# Altium footprint library Components_Pcb.PcbLib: 7 footprints
Each footprint in its own frame and in the unit in brackets; x right, y up, seen from the top. Pads: shape width x height; smd on the part's side, far side on the other; paste and mask are expansions set on the pad; w line width, h text height; cw(c..) or ccw(c..) is an arc to the next point about the centre after c.
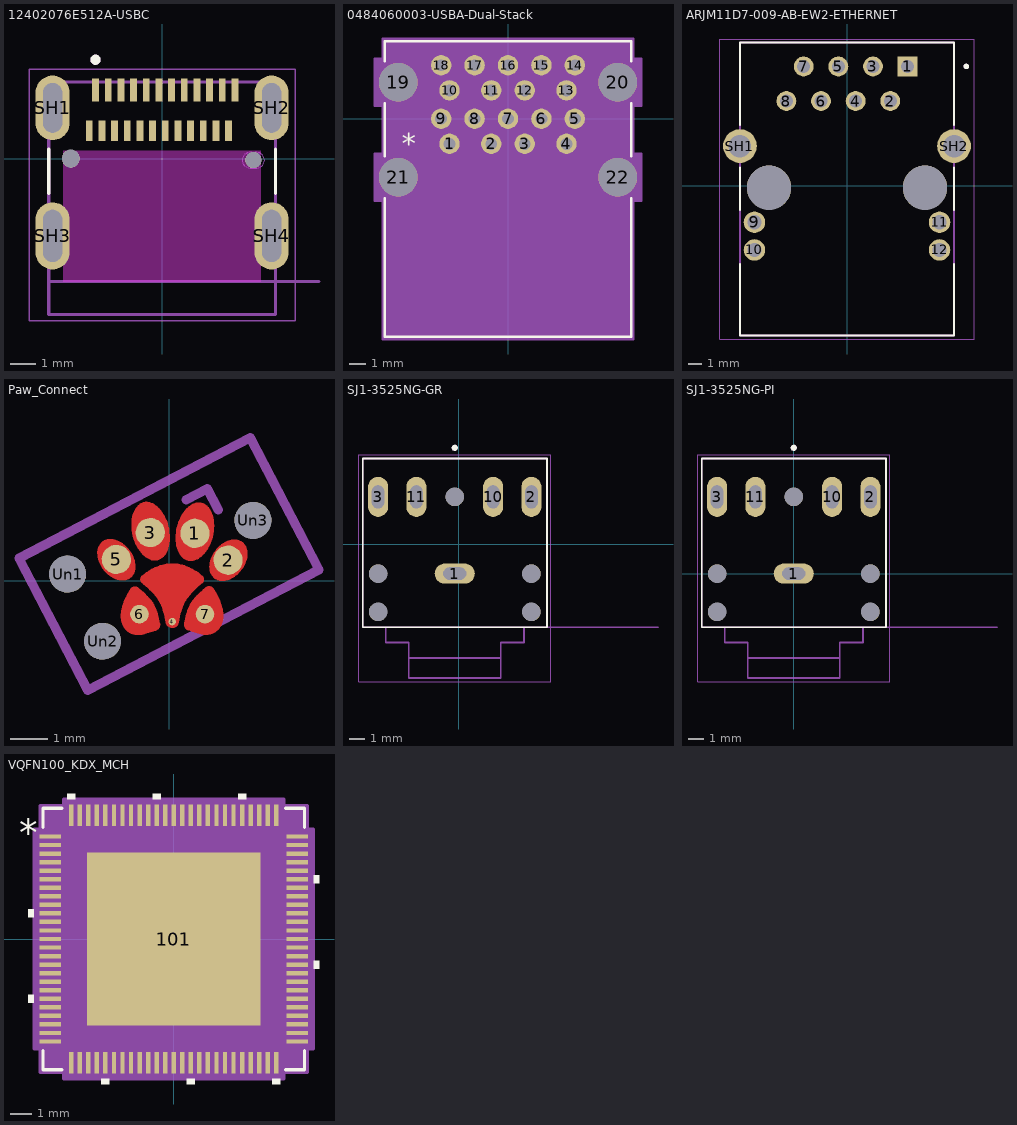
[diagram p0: the footprints below, top view; thin cyan lines are the x and y axes]

## 12402076E512A-USBC [mm] "USB CONN, 4.0 TYPE C, R/A RCPT, 24P, SMT; USB Connector Type: USB Type C; USB Standard: USB 4.0; Gender: Receptacle; No. of Positions: 24Positions; Connector Mounting: Surface Mount, Through Hole Mount; Or 79AJ9108"
pads (30):
  rect 0.27x0.9 smd: A1(-2.625,2.7) A2(-2.125,2.7) A3(-1.625,2.7) A4(-1.125,2.7) A5(-0.625,2.7) A6(-0.125,2.7) A7(0.375,2.7) A8(0.875,2.7) A9(1.375,2.7) A10(1.875,2.7) A11(2.375,2.7) A12(2.875,2.7)
  rect 0.27x0.8 smd: B1(2.625,1.1) B2(2.125,1.1) B3(1.625,1.1) B4(1.125,1.1) B5(0.625,1.1) B6(0.125,1.1) B7(-0.375,1.1) B8(-0.875,1.1) B9(-1.375,1.1) B10(-1.875,1.1) B11(-2.375,1.1) B12(-2.875,1.1)
  oval 1.35x2.55 hole 0.75 slot 1.95 at 90 deg: SH1(-4.32,2) SH2(4.32,2)
  oval 1.35x2.65 hole 0.75 slot 2.05 at 90 deg: SH3(-4.32,-3.05) SH4(4.32,-3.05)
  round 0.7 hole 0.7 unplated: ""(-3.6,0)
  round 0.63 hole 0.63 unplated: ""(3.6,-0.065)
Top Overlay:
  circle w0.2: c-2.625,3.9 r0.1
  lines w0.127: -4.47,-1.38 -4.47,0.38 ; 4.47,-1.38 4.47,0.38
Keep-Out Layer:
  region: 3.9,-4.85 -3.9,-4.85 -3.9,0.3 3.9,0.3
Mechanical 1:
  lines w0: 3.16,-0.065 cw(c3.492,-0.082) 3.51,0.25 3.69,0.25 cw(c3.708,-0.082) 4.04,-0.065 cw(c3.708,-0.048) 3.69,-0.38 3.51,-0.38 cw(c3.492,-0.048) 3.16,-0.065
Mechanical 13:
  circle w0.2: c-2.625,3.9 r0.1
  lines w0.127: 6.19,-4.85 -4.47,-4.85 ; -4.47,-4.85 -4.47,3.02 4.47,3.02 4.47,-6.15 -4.47,-6.15 -4.47,-4.85
  text "PCB Edge" at 5.46,-4.55 h0.81
Mechanical 15:
  lines w0.05: -5.245,-6.4 5.245,-6.4 5.245,3.525 -5.245,3.525 -5.245,-6.4
3D body "step_temp.STEP": height 3.18, standoff -0.88, extent -4.47,-6.249 4.47,2.921

## 0484060003-USBA-Dual-Stack [mil] "Universal Serial Bus (USB 3.0) I/O Receptacle, Dual Port Stacked, Right-Angle, Type A, High-Temperature Blue Nylon, 0.38Âµm Gold (Au) Plating, Contact Height 4.13mm"
pads (22):
  round 48 hole 28 paste-99999 mask+0: 1(-137.8,-59.06) 2(-39.37,-59.06) 3(39.37,-59.06) 4(137.8,-59.06) 5(157.48,0) 6(78.74,0) 7(0,0) 8(-78.74,0) 9(-157.48,0) 10(-137.8,66.93) 11(-39.37,66.93) 12(39.37,66.93) 13(137.8,66.93) 14(157.48,125.98) 15(78.74,125.98) 16(0,125.98) 17(-78.74,125.98) 18(-157.48,125.98)
  round 91 hole 91 unplated paste-99999 mask+0: 19(-258.66,85.83) 20(258.66,85.83) 21(-258.66,-137.8) 22(258.66,-137.8)
Top Overlay:
  lines w6: -290.5,-186.99 -290.5,-514.05 290.5,-514.05 290.5,-186.99 ; -290.5,-88.6 -290.5,36.63 ; -290.5,135.02 -290.5,182.95 290.5,182.95 290.5,135.02 ; 290.5,-88.6 290.5,36.63
  text "*" at -250.3,-84.06 h50
  text ".Designator" at -137.5,-84.06 h50
Mechanical 13:
  lines w1: -285.5,-509.05 285.5,-509.05 285.5,177.95 -285.5,177.95 -285.5,-509.05
  text ".Designator" at -137.5,-84.06 h50
  text "*" at -250.3,-84.06 h50
Mechanical 15:
  region: 295.5,-193.3 314.16,-193.3 314.16,-82.3 295.5,-82.3 295.5,30.33 314.16,30.33 314.16,141.33 295.5,141.33 295.5,187.95 -295.5,187.95 -295.5,141.33 -314.16,141.33 -314.16,30.33 -295.5,30.33 -295.5,-82.3 -314.16,-82.3 -314.16,-193.3 -295.5,-193.3 -295.5,-519.05 295.5,-519.05
  lines w6: -314.16,-193.3 -314.16,-82.3 -295.5,-82.3 -295.5,30.33 -314.16,30.33 -314.16,141.33 -295.5,141.33 -295.5,187.95 295.5,187.95 295.5,141.33 314.16,141.33 314.16,30.33 295.5,30.33 295.5,-82.3 314.16,-82.3 314.16,-193.3 295.5,-193.3 295.5,-519.05 -295.5,-519.05 -295.5,-193.3 -314.16,-193.3
3D body "484060003.stp": height 610.24, standoff -153.45, extent -308.46,-505 308.46,182.4

## ARJM11D7-009-AB-EW2-ETHERNET [mm]
pads (16):
  rect 1.458x1.458 / inner round 1.458 / far side rect 1.458x1.458 hole 0.95: 1(4.445,8.763)
  round 1.458 hole 0.95: 2(3.175,6.223) 3(1.905,8.763) 4(0.635,6.223) 5(-0.635,8.763) 6(-1.905,6.223) 7(-3.175,8.763) 8(-4.445,6.223)
  round 1.575 hole 1.05: 9(-6.785,-2.667) 10(-6.785,-4.697) 11(6.785,-2.667) 12(6.785,-4.697)
  round 2.475 hole 1.65: SH1(-7.85,2.923) SH2(7.85,2.923)
  round 3.25 hole 3.25 unplated: ""(-5.715,-0.127) ""(5.715,-0.127)
Top Overlay:
  circle w0.2: c8.75,8.763 r0.1
  lines w0.127: -7.85,-5.727 -7.85,-10.977 7.85,-10.977 7.85,-5.727 ; -7.85,-1.777 -7.85,1.372 ; -7.85,4.474 -7.85,10.523 7.85,10.523 7.85,4.474 ; 7.85,-1.777 7.85,1.372
Mechanical 13:
  circle w0.2: c8.75,8.763 r0.1
  lines w0.127: -7.85,-10.977 -7.85,10.523 7.85,10.523 7.85,-10.977 -7.85,-10.977
Mechanical 15:
  lines w0.05: -9.337,-11.227 -9.337,10.773 9.337,10.773 9.337,-11.227 -9.337,-11.227
3D body "ARJM11D7-009-AB-EW2--3DModel-STEP-368357.STEP": height 13.8, standoff -3.6, extent -7.99,-11.049 7.99,10.601

## Paw_Connect [mil] "Tag-Connect TC2030-*-NL pogo pin programming cable but as a paw."
pads (10):
  round 31 smd: 1(27.31,50.26) 2(62.35,21.91) 3(-19.94,51.04) 5(-55.76,22.7)
  round 7.87 smd: 4(3.29,-43.05)
  round 19.68 smd: 6(-31.35,-35.18) 7(37.94,-35.18)
  round 39 hole 39: Un1(-107.3,7.15) Un2(-70.36,-63.81) Un3(88.58,64.02)
Top Layer:
  region: 32.1,82.81 33.09,82.72 34.07,82.54 35.04,82.29 35.99,81.95 36.91,81.55 37.8,81.07 38.65,80.52 39.46,79.9 40.24,79.22 40.99,78.48 41.7,77.68 43,75.9 44.15,73.92 45.14,71.73 45.96,69.37 46.61,66.85 47.08,64.19 47.37,61.4 47.47,58.51 47.37,55.53 47.08,52.49 46.59,49.39 45.88,46.27 45.45,44.71 44.98,43.2 44.47,41.72 43.92,40.27 43.33,38.87 42.71,37.51 42.05,36.19 41.36,34.92 40.63,33.69 39.88,32.51 39.1,31.38 38.3,30.3 37.47,29.27 36.62,28.29 35.75,27.37 34.86,26.51 33.95,25.71 33.02,24.96 32.08,24.28 31.13,23.66 30.17,23.1 29.2,22.61 28.22,22.19 27.23,21.83 26.24,21.55 25.25,21.34 24.26,21.2 23.27,21.14 22.28,21.16 21.29,21.25 20.31,21.42 19.34,21.68 18.39,22.01 17.47,22.42 16.58,22.9 15.73,23.45 14.92,24.06 14.13,24.74 13.39,25.48 12.68,26.28 11.38,28.06 10.23,30.05 9.24,32.23 8.42,34.6 7.77,37.12 7.3,39.78 7.01,42.56 6.91,45.45 7,48.43 7.3,51.48 7.79,54.57 8.5,57.7 8.93,59.25 9.4,60.77 9.91,62.25 10.46,63.69 11.05,65.09 11.67,66.45 12.33,67.77 13.02,69.05 13.74,70.27 14.5,71.45 15.27,72.59 16.08,73.67 16.91,74.7 17.76,75.67 18.63,76.59 19.52,77.45 20.43,78.26 21.36,79 22.3,79.69 23.25,80.31 24.21,80.86 25.18,81.35 26.16,81.78 27.15,82.13 28.14,82.41 29.13,82.62 30.12,82.76 31.11,82.82
  region: 69.55,43.58 70.45,43.53 71.34,43.43 72.2,43.27 73.05,43.07 73.87,42.82 74.67,42.51 75.45,42.15 76.2,41.74 76.92,41.28 77.61,40.77 78.27,40.2 78.89,39.59 79.48,38.92 80.03,38.2 80.52,37.45 80.97,36.67 81.36,35.85 81.71,35.01 82,34.14 82.25,33.25 82.45,32.33 82.61,31.39 82.71,30.43 82.77,29.45 82.78,28.46 82.66,26.44 82.36,24.38 81.88,22.3 81.22,20.2 80.39,18.12 79.39,16.06 78.22,14.03 76.88,12.06 75.38,10.16 73.73,8.34 72.85,7.48 71.95,6.66 71.04,5.89 70.12,5.17 69.19,4.49 68.24,3.86 67.29,3.28 66.33,2.75 65.36,2.26 64.4,1.82 63.43,1.43 62.46,1.08 61.5,0.79 60.54,0.54 59.58,0.35 58.63,0.2 57.7,0.1 56.77,0.05 55.85,0.05 54.95,0.1 54.07,0.21 53.2,0.36 52.36,0.56 51.53,0.82 50.73,1.12 49.96,1.48 49.21,1.89 48.49,2.35 47.8,2.86 47.14,3.43 46.51,4.05 45.92,4.72 45.38,5.43 44.88,6.18 44.44,6.96 44.04,7.78 43.7,8.62 43.4,9.49 43.15,10.39 42.95,11.3 42.8,12.24 42.69,13.2 42.64,14.18 42.63,15.17 42.74,17.19 43.04,19.25 43.52,21.33 44.18,23.43 45.01,25.51 46.01,27.57 47.18,29.6 48.52,31.57 50.02,33.47 51.68,35.29 52.56,36.15 53.45,36.97 54.36,37.74 55.28,38.46 56.22,39.14 57.16,39.77 58.12,40.35 59.08,40.89 60.04,41.37 61.01,41.81 61.97,42.2 62.94,42.55 63.91,42.84 64.87,43.09 65.82,43.29 66.77,43.43 67.71,43.53 68.64,43.58
  region: -23.33,83.46 -22.34,83.37 -21.35,83.21 -20.36,82.98 -19.37,82.67 -18.38,82.29 -17.41,81.85 -16.43,81.34 -15.47,80.76 -14.52,80.11 -13.59,79.41 -12.67,78.64 -11.76,77.82 -10.87,76.93 -10,75.99 -9.15,75 -8.33,73.95 -7.53,72.85 -6.75,71.7 -6,70.5 -5.29,69.26 -4.6,67.97 -3.94,66.64 -3.32,65.26 -2.74,63.84 -2.19,62.39 -1.69,60.9 -1.22,59.37 -0.8,57.81 -0.1,54.66 0.38,51.56 0.67,48.5 0.75,45.53 0.64,42.64 0.34,39.86 -0.14,37.21 -0.8,34.7 -1.62,32.36 -2.62,30.2 -3.77,28.24 -5.08,26.49 -5.79,25.7 -6.54,24.98 -7.32,24.32 -8.14,23.72 -9,23.19 -9.88,22.74 -10.8,22.35 -11.76,22.04 -12.73,21.81 -13.71,21.66 -14.69,21.59 -15.68,21.59 -16.68,21.68 -17.67,21.84 -18.66,22.07 -19.65,22.38 -20.63,22.75 -21.61,23.2 -22.58,23.71 -23.54,24.29 -24.49,24.93 -25.43,25.64 -26.35,26.41 -27.26,27.23 -28.14,28.12 -29.01,29.06 -29.86,30.05 -30.69,31.1 -31.49,32.2 -32.26,33.35 -33.01,34.55 -33.73,35.79 -34.42,37.08 -35.07,38.41 -35.69,39.79 -36.27,41.2 -36.82,42.66 -37.33,44.15 -37.79,45.68 -38.22,47.24 -38.91,50.39 -39.4,53.49 -39.68,56.54 -39.76,59.52 -39.65,62.41 -39.35,65.19 -38.87,67.84 -38.22,70.35 -37.39,72.69 -36.4,74.85 -35.24,76.81 -33.93,78.56 -33.22,79.34 -32.47,80.07 -31.69,80.73 -30.87,81.33 -30.02,81.85 -29.13,82.31 -28.21,82.7 -27.26,83.01 -26.29,83.24 -25.31,83.39 -24.32,83.46
  region: 228 vertices and 0 holes, not listed, extent -30.34,-49.69 36.79,18.28
  region: -61.67,44.1 -60.74,44.05 -59.81,43.94 -58.86,43.78 -57.9,43.58 -56.94,43.33 -55.98,43.02 -55.01,42.67 -54.04,42.27 -53.08,41.83 -52.11,41.33 -51.15,40.79 -50.2,40.2 -49.26,39.56 -48.32,38.87 -47.4,38.14 -46.49,37.37 -45.6,36.54 -44.72,35.67 -43.07,33.84 -41.57,31.93 -40.23,29.95 -39.07,27.91 -38.06,25.84 -37.24,23.75 -36.58,21.65 -36.1,19.57 -35.81,17.5 -35.69,15.48 -35.7,14.49 -35.76,13.52 -35.87,12.56 -36.02,11.62 -36.22,10.7 -36.47,9.81 -36.77,8.94 -37.11,8.1 -37.51,7.29 -37.96,6.51 -38.45,5.77 -39,5.06 -39.59,4.39 -40.21,3.78 -40.87,3.22 -41.56,2.71 -42.28,2.25 -43.03,1.85 -43.81,1.5 -44.61,1.2 -45.44,0.95 -46.28,0.76 -47.15,0.61 -48.03,0.52 -48.93,0.47 -49.85,0.48 -50.77,0.53 -51.71,0.64 -52.66,0.79 -53.61,1 -54.58,1.25 -55.54,1.56 -56.51,1.91 -57.48,2.31 -58.44,2.75 -59.41,3.25 -60.36,3.79 -61.32,4.38 -62.26,5.02 -63.19,5.7 -64.12,6.43 -65.03,7.21 -65.92,8.04 -66.8,8.91 -68.45,10.74 -69.95,12.65 -71.28,14.63 -72.45,16.67 -73.45,18.74 -74.28,20.83 -74.94,22.92 -75.42,25.01 -75.71,27.07 -75.83,29.1 -75.82,30.09 -75.76,31.06 -75.65,32.02 -75.5,32.96 -75.3,33.88 -75.05,34.77 -74.75,35.64 -74.4,36.48 -74.01,37.29 -73.56,38.07 -73.07,38.81 -72.52,39.52 -71.93,40.19 -71.31,40.8 -70.65,41.36 -69.96,41.87 -69.23,42.33 -68.48,42.73 -67.71,43.08 -66.91,43.38 -66.08,43.63 -65.24,43.82 -64.37,43.97 -63.49,44.06 -62.59,44.11
  region: -32.69,-7.27
  region: 182 vertices and 0 holes, not listed, extent -50.96,-57.13 -9.56,-6.06
  region: 38.76,-7
  region: 38.76,-7
  region: 38.76,-7
  region: 182 vertices and 0 holes, not listed, extent 15.9,-56.85 57.24,-5.75
Top Solder:
  drawing of 15 lines, arcs and shapes, not listed
Mechanical 4:
  lines w10: -158.71,24.06 85.74,151.31 158.46,11.63 -85.99,-115.63 -158.71,24.06
Mechanical 6:
  text "'.Designator'" at -126.17,-85.07 h39.37
Mechanical 7:
  lines w10: 18.13,85.96 40.3,97.5 51.84,75.32
  text "KEEPOUT" at -39.26,-14.51 h15.75

## SJ1-3525NG-GR [mm] "Stereo audio output via a 3.5mm AUX connector"
pads (10):
  oval 2.616x1.308 hole 0.8 slot 1.5 at 0 deg: 1(-0.254,-1.905)
  oval 1.308x2.616 hole 0.8 slot 1.5 at 90 deg: 2(4.746,3.095) 3(-5.254,3.095) 10(2.246,3.095) 11(-2.754,3.095)
  round 1.2 hole 1.2 unplated: ""(-5.254,-4.405) ""(-5.254,-1.905) ""(-0.254,3.095) ""(4.746,-4.405) ""(4.746,-1.905)
Top Overlay:
  circle w0.2: c-0.254,6.295 r0.1
  lines w0.127: -6.254,-5.405 5.746,-5.405 5.746,5.595 -6.254,5.595 -6.254,-5.405
Mechanical 13:
  circle w0.2: c-0.254,6.295 r0.1
  lines w0.127: 12.996,-5.405 5.746,-5.405 ; -4.754,-5.405 -4.754,-6.405 -3.254,-6.405 -3.254,-7.405 ; -4.754,-5.405 4.246,-5.405 ; -4.754,-5.405 -6.254,-5.405 -6.254,5.595 5.746,5.595 5.746,-5.405 ; -3.254,-7.405 2.746,-7.405 ; -3.254,-7.405 -3.254,-8.705 2.746,-8.705 2.746,-7.405 ; 2.746,-7.405 2.746,-6.405 4.246,-6.405 4.246,-5.405 ; 4.246,-5.405 5.746,-5.405
  text "PCB EDGE" at 6.746,-5.155 h0.81
Mechanical 15:
  lines w0.05: -6.504,-8.955 -6.504,5.845 5.996,5.845 5.996,-8.955 -6.504,-8.955
3D body "step_temp.STEP": height 6.05, standoff -2.75, extent -6.285,-8.422 5.715,5.628

## SJ1-3525NG-PI [mm] "Stereo audio input via a 3.5mm AUX connector"
pads (10):
  oval 2.616x1.308 hole 0.8 slot 1.5 at 0 deg mask+0.102: 1(0,0)
  oval 1.308x2.616 hole 0.8 slot 1.5 at 90 deg mask+0.102: 2(5,5) 3(-5,5) 10(2.5,5) 11(-2.5,5)
  round 1.2 hole 1.2 unplated mask+0: ""(-5,-2.5) ""(-5,0) ""(0,5) ""(5,-2.5) ""(5,0)
Top Overlay:
  circle w0.2: c0,8.2 r0.1
  lines w0.127: -6,-3.5 -6,7.5 6,7.5 6,-3.5 -6,-3.5
Mechanical 13:
  circle w0.2: c0,8.2 r0.1
  lines w0.127: 13.25,-3.5 6,-3.5 ; -4.5,-3.5 -6,-3.5 -6,7.5 6,7.5 6,-3.5 ; -4.5,-3.5 4.5,-3.5 ; -4.5,-3.5 -4.5,-4.5 -3,-4.5 -3,-5.5 ; -3,-5.5 -3,-6.8 3,-6.8 3,-5.5 ; -3,-5.5 3,-5.5 ; 3,-5.5 3,-4.5 4.5,-4.5 4.5,-3.5 ; 4.5,-3.5 6,-3.5
  text "PCB EDGE" at 7,-3.25 h0.81
Mechanical 15:
  lines w0.05: -6.25,-7.05 6.25,-7.05 6.25,7.75 -6.25,7.75 -6.25,-7.05
3D body "step_temp.STEP": height 6.05, standoff -2.45, extent -6,-6.807 6,7.493

## VQFN100_KDX_MCH [mm]
pads (101):
  rect 1.011x0.204 smd paste+0 mask+0: 1(-5.789,4.8) 2(-5.789,4.4) 3(-5.789,4) 4(-5.789,3.6) 5(-5.789,3.2) 6(-5.789,2.8) 7(-5.789,2.4) 8(-5.789,2) 9(-5.789,1.6) 10(-5.789,1.2) 11(-5.789,0.8) 12(-5.789,0.4) 13(-5.789,0) 14(-5.789,-0.4) 15(-5.789,-0.8) 16(-5.789,-1.2) 17(-5.789,-1.6) 18(-5.789,-2) 19(-5.789,-2.4) 20(-5.789,-2.8) 21(-5.789,-3.2) 22(-5.789,-3.6) 23(-5.789,-4) 24(-5.789,-4.4) 25(-5.789,-4.8) 51(5.789,-4.8) 52(5.789,-4.4) 53(5.789,-4) 54(5.789,-3.6) 55(5.789,-3.2) 56(5.789,-2.8) 57(5.789,-2.4) 58(5.789,-2) 59(5.789,-1.6) 60(5.789,-1.2) 61(5.789,-0.8) 62(5.789,-0.4) 63(5.789,0) 64(5.789,0.4) 65(5.789,0.8) 66(5.789,1.2) 67(5.789,1.6) 68(5.789,2) 69(5.789,2.4) 70(5.789,2.8) 71(5.789,3.2) 72(5.789,3.6) 73(5.789,4) 74(5.789,4.4) 75(5.789,4.8)
  rect 0.204x1.011 smd paste+0 mask+0: 26(-4.8,-5.789) 27(-4.4,-5.789) 28(-4,-5.789) 29(-3.6,-5.789) 30(-3.2,-5.789) 31(-2.8,-5.789) 32(-2.4,-5.789) 33(-2,-5.789) 34(-1.6,-5.789) 35(-1.2,-5.789) 36(-0.8,-5.789) 37(-0.4,-5.789) 38(0,-5.789) 39(0.4,-5.789) 40(0.8,-5.789) 41(1.2,-5.789) 42(1.6,-5.789) 43(2,-5.789) 44(2.4,-5.789) 45(2.8,-5.789) 46(3.2,-5.789) 47(3.6,-5.789) 48(4,-5.789) 49(4.4,-5.789) 50(4.8,-5.789) 76(4.8,5.789) 77(4.4,5.789) 78(4,5.789) 79(3.6,5.789) 80(3.2,5.789) 81(2.8,5.789) 82(2.4,5.789) 83(2,5.789) 84(1.6,5.789) 85(1.2,5.789) 86(0.8,5.789) 87(0.4,5.789) 88(0,5.789) 89(-0.4,5.789) 90(-0.8,5.789) 91(-1.2,5.789) 92(-1.6,5.789) 93(-2,5.789) 94(-2.4,5.789) 95(-2.8,5.789) 96(-3.2,5.789) 97(-3.6,5.789) 98(-4,5.789) 99(-4.4,5.789) 100(-4.8,5.789)
  rect 8.103x8.103 smd paste-4.051 mask+0: 101(0,0)
Top Overlay:
  region: -4.61,6.548 -4.991,6.548 -4.991,6.802 -4.61,6.802
  region: -0.61,6.548 -0.991,6.548 -0.991,6.802 -0.61,6.802
  region: 3.39,6.548 3.009,6.548 3.009,6.802 3.39,6.802
  region: 6.548,2.99 6.802,2.99 6.802,2.609 6.548,2.609
  region: 6.548,-1.01 6.802,-1.01 6.802,-1.391 6.548,-1.391
  region: 4.991,-6.548 4.61,-6.548 4.61,-6.802 4.991,-6.802
  region: 0.991,-6.548 0.61,-6.548 0.61,-6.802 0.991,-6.802
  region: -3.009,-6.548 -3.39,-6.548 -3.39,-6.802 -3.009,-6.802
  region: -6.548,-2.609 -6.802,-2.609 -6.802,-2.99 -6.548,-2.99
  region: -6.548,1.391 -6.802,1.391 -6.802,1.01 -6.548,1.01
  lines w0.152: -6.121,-5.235 -6.121,-6.121 -5.235,-6.121 ; -6.121,5.235 -6.121,6.121 -5.235,6.121 ; 5.235,-6.121 6.121,-6.121 6.121,-5.235 ; 5.235,6.121 6.121,6.121 6.121,5.235
  text ".Designator" at -3.492,-0.635 h1.27
  text "*" at -7.247,4.365 h1.27
Top Paste:
  region: 3.951,-2.801 2.801,-2.801 2.801,-3.951 3.951,-3.951
  region: 3.951,-1.45 2.801,-1.45 2.801,-2.601 3.951,-2.601
  region: 3.951,-0.1 2.801,-0.1 2.801,-1.25 3.951,-1.25
  region: 3.951,1.25 2.801,1.25 2.801,0.1 3.951,0.1
  region: 3.951,2.601 2.801,2.601 2.801,1.45 3.951,1.45
  region: 3.951,3.951 2.801,3.951 2.801,2.801 3.951,2.801
  region: 2.601,-2.801 1.45,-2.801 1.45,-3.951 2.601,-3.951
  region: 2.601,-1.45 1.45,-1.45 1.45,-2.601 2.601,-2.601
  region: 2.601,-0.1 1.45,-0.1 1.45,-1.25 2.601,-1.25
  region: 2.601,1.25 1.45,1.25 1.45,0.1 2.601,0.1
  region: 2.601,2.601 1.45,2.601 1.45,1.45 2.601,1.45
  region: 2.601,3.951 1.45,3.951 1.45,2.801 2.601,2.801
  region: 1.25,-2.801 0.1,-2.801 0.1,-3.951 1.25,-3.951
  region: 1.25,-1.45 0.1,-1.45 0.1,-2.601 1.25,-2.601
  region: 1.25,-0.1 0.1,-0.1 0.1,-1.25 1.25,-1.25
  region: 1.25,1.25 0.1,1.25 0.1,0.1 1.25,0.1
  region: 1.25,2.601 0.1,2.601 0.1,1.45 1.25,1.45
  region: 1.25,3.951 0.1,3.951 0.1,2.801 1.25,2.801
  region: -0.1,-2.801 -1.25,-2.801 -1.25,-3.951 -0.1,-3.951
  region: -0.1,-1.45 -1.25,-1.45 -1.25,-2.601 -0.1,-2.601
  region: -0.1,-0.1 -1.25,-0.1 -1.25,-1.25 -0.1,-1.25
  region: -0.1,1.25 -1.25,1.25 -1.25,0.1 -0.1,0.1
  region: -0.1,2.601 -1.25,2.601 -1.25,1.45 -0.1,1.45
  region: -0.1,3.951 -1.25,3.951 -1.25,2.801 -0.1,2.801
  region: -1.45,-2.801 -2.601,-2.801 -2.601,-3.951 -1.45,-3.951
  region: -1.45,-1.45 -2.601,-1.45 -2.601,-2.601 -1.45,-2.601
  region: -1.45,-0.1 -2.601,-0.1 -2.601,-1.25 -1.45,-1.25
  region: -1.45,1.25 -2.601,1.25 -2.601,0.1 -1.45,0.1
  region: -1.45,2.601 -2.601,2.601 -2.601,1.45 -1.45,1.45
  region: -1.45,3.951 -2.601,3.951 -2.601,2.801 -1.45,2.801
  region: -2.801,-2.801 -3.951,-2.801 -3.951,-3.951 -2.801,-3.951
  region: -2.801,-1.45 -3.951,-1.45 -3.951,-2.601 -2.801,-2.601
  region: -2.801,-0.1 -3.951,-0.1 -3.951,-1.25 -2.801,-1.25
  region: -2.801,1.25 -3.951,1.25 -3.951,0.1 -2.801,0.1
  region: -2.801,2.601 -3.951,2.601 -3.951,1.45 -2.801,1.45
  region: -2.801,3.951 -3.951,3.951 -3.951,2.801 -2.801,2.801
Mechanical 13:
  drawing of 205 lines, arcs and shapes, not listed
  text "*" at -5.601,4.365 h1.27
  text ".Designator" at -3.492,-0.635 h1.27
Mechanical 15:
  region: -5.156,-6.248 -6.248,-6.248 -6.248,-5.156 -6.548,-5.156 -6.548,5.156 -6.248,5.156 -6.248,6.248 -5.156,6.248 -5.156,6.548 5.156,6.548 5.156,6.248 6.248,6.248 6.248,5.156 6.548,5.156 6.548,-5.156 6.248,-5.156 6.248,-6.248 5.156,-6.248 5.156,-6.548 -5.156,-6.548
  lines w0.152: -6.548,-5.156 -6.548,5.156 -6.248,5.156 -6.248,6.248 -5.156,6.248 -5.156,6.548 5.156,6.548 5.156,6.248 6.248,6.248 6.248,5.156 6.548,5.156 6.548,-5.156 6.248,-5.156 6.248,-6.248 5.156,-6.248 5.156,-6.548 -5.156,-6.548 -5.156,-6.248 -6.248,-6.248 -6.248,-5.156 -6.548,-5.156
3D body "VQFN100_KDX_MCH.step": height 0.89, standoff 0, extent -5.994,-5.994 5.994,5.994